# Altium schematic symbol library Resistors.SchLib: 93 symbols (part 2 of 2)
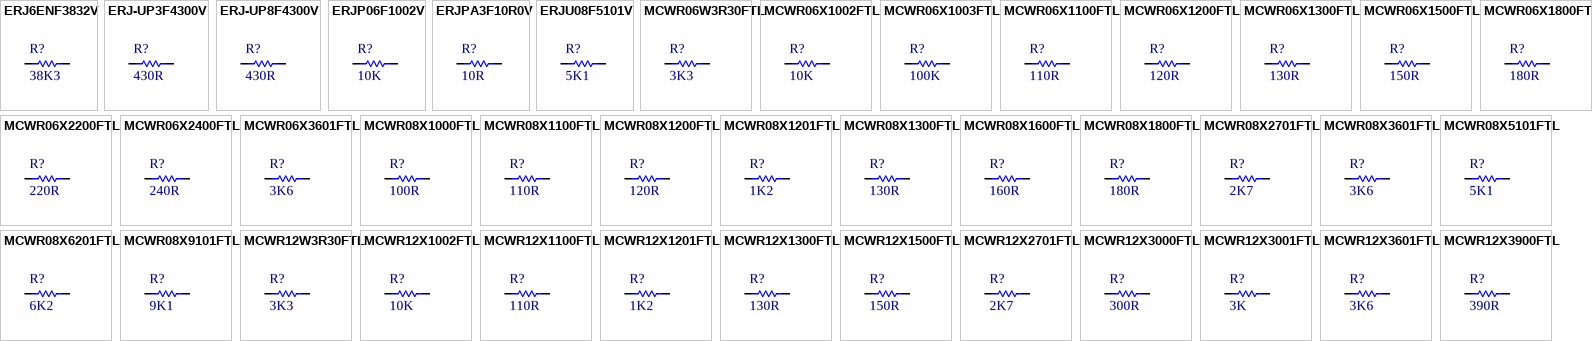
[diagram p3: symbols ERJ6ENF3832V to MCWR12X3900FTL]

## MCWR12X3001FTL
designator R?, comment 3K
RES 3K, ±1%, 250mW, 200V, 1206 [3216 Metric], Thick Film; Manufacturer: MULTICOMP PRO; Manufacturer Part Number: MCWR12X3001FTL; Temperature Coefficient: ± 100ppm/°C; Value: 3K; Supplier 1: Farnell; Supplier Part Number 1: 2447513; Tollerance: ± 1%; Power: 250mW; Voltage: 200V; Package: 1206 [3216 Metric]; Part Type: Thick Film; ComponentLink1Description: Datasheet; ComponentLink1URL: http://www.farnell.com/datasheets/2563624.pdf; Mounting: SMD
footprint RESC3216N (Chip Resistor, Body 3.2x1.6mm, IPC Medium Density)
pins: 1, 2
1 alternate drawing of the same symbol

## MCWR12X3601FTL
designator R?, comment 3K6
RES 3K6, ±1%, 250mW, 200V, 1206 [3216 Metric], Thick Film; Manufacturer: MULTICOMP PRO; Manufacturer Part Number: MCWR12X3601FTL; Temperature Coefficient: ± 100ppm/°C; Value: 3K6; Supplier 1: Farnell; Supplier Part Number 1: 2447515; Tollerance: ± 1%; Power: 250mW; Voltage: 200V; Package: 1206 [3216 Metric]; Part Type: Thick Film; ComponentLink1Description: Datasheet; ComponentLink1URL: http://www.farnell.com/datasheets/2563624.pdf; Mounting: SMD
footprint RESC3216N (Chip Resistor, Body 3.2x1.6mm, IPC Medium Density)
pins: 1, 2
1 alternate drawing of the same symbol

## MCWR12X3900FTL
designator R?, comment 390R
RES 390R, ±1%, 250mW, 1206 [3216 Metric], Thick Film, General Purpose; Manufacturer: MULTICOMP PRO; Manufacturer Part Number: MCWR12X3900FTL; Voltage: 200V; Temperature Coefficient: ± 100ppm/°C; Value: 390R; Supplier 1: Farnell; Supplier Part Number 1: 2447510; Tollerance: ± 1%; Power: 250mW; Package: 1206 [3216 Metric]; Resistor Type: Thick Film; ComponentLink1Description: http://www.farnell.com/datasheets/2563624.pdf; ComponentLink1URL: https://lt.farnell.com/multicomp/mcwr12x3900ftl/res-390r-1-0-25w-thick-film/dp/2447510
footprint RESC3216N (Chip Resistor, Body 3.2x1.6mm, IPC Medium Density)
pins: 1, 2
1 alternate drawing of the same symbol

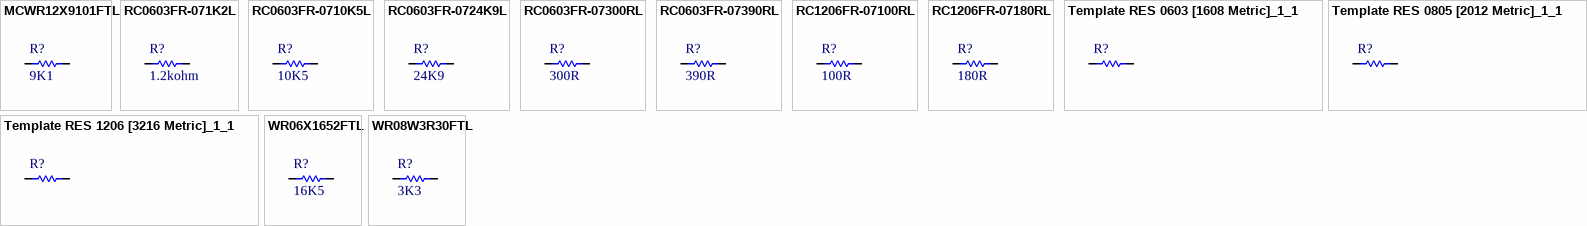
[diagram p2: symbols MCWR12X9101FTL to WR08W3R30FTL]

## MCWR12X9101FTL
designator R?, comment 9K1
RES 9K1, ±1%, 250mW, 200V, 1206 [3216 Metric], Thick Film; Manufacturer: MULTICOMP PRO; Manufacturer Part Number: MCWR12X9101FTL; Temperature Coefficient: ± 100ppm/°C; Value: 9K1; Supplier 1: Farnell; Supplier Part Number 1: 2447549; Tollerance: ± 1%; Power: 250mW; Voltage: 200V; Package: 1206 [3216 Metric]; Part Type: Thick Film; ComponentLink1Description: Datasheet; ComponentLink1URL: http://www.farnell.com/datasheets/2563624.pdf; Mounting: SMD
footprint RESC3216N (Chip Resistor, Body 3.2x1.6mm, IPC Medium Density)
pins: 1, 2
1 alternate drawing of the same symbol

## RC0603FR-071K2L
designator R?, comment 1.2kohm
RES 1K2, ±1%, 125mW, 75V, 0603 [1608 Metric], Thick Film; Manufacturer: YAGEO; Manufacturer Part Number: RC0603FR-071K2L; Power: 100mW; Temperature Coefficient: ± 150ppm/°C; Value: 1.2kohm; Supplier 1: Farnell; Supplier Part Number 1: 2693663; Tollerance: ± 1%; Voltage: 75V; Package: 0603 [1608 Metric]; Part Type: General Purpose; ComponentLink1Description: Datasheet; ComponentLink1URL: https://uk.farnell.com/yageo/rc0603fr-071k2l/res-1k2-1-0-1w-0603-thick-film/dp/2693663?ost=2693663; Mounting: SMD
footprint RESC1608N (Chip Resistor, Body 1.6x0.8mm, IPC Medium Density)
pins: 1, 2
1 alternate drawing of the same symbol

## RC0603FR-0710K5L
designator R?, comment 10K5
RES 10K5, ±1%, 100mW, 75V, 0603 [1608 Metric], Thick Film; Manufacturer: YAGEO; Manufacturer Part Number: RC0603FR-0710K5L; Tollerance: ±1%,; Temperature Coefficient: ± 100ppm/°C; Value: 10K5; Supplier 1: Farnell; Supplier Part Number 1: 3495722; Power: 100mW; Voltage: 75V; Package: 0603 [1608 Metric]; Part Type: Thick Film; ComponentLink1Description: Datasheet; ComponentLink1URL: http://www.farnell.com/datasheets/3046031.pdf; Mounting: SMD
footprint RESC1608N (Chip Resistor, Body 1.6x0.8mm, IPC Medium Density)
pins: 1, 2
1 alternate drawing of the same symbol

## RC0603FR-0724K9L
designator R?, comment 24K9
RES 24K9, ±1%, 100mW, 75V, 0603 [1608 Metric], Thick Film; Manufacturer: YAGEO; Manufacturer Part Number: RC0603FR-0724K9L; Temperature Coefficient: ± 100ppm/°C; Value: 24K9; Supplier 1: Farnell; Supplier Part Number 1: 3495781; Tollerance: ± 1%; Power: 100mW; Voltage: 75V; Package: 0603 [1608 Metric]; Part Type: Thick Film; ComponentLink1Description: Datasheet; ComponentLink1URL: http://www.farnell.com/datasheets/3046031.pdf; Mounting: SMD
footprint RESC1608N (Chip Resistor, Body 1.6x0.8mm, IPC Medium Density)
pins: 1, 2
1 alternate drawing of the same symbol

## RC0603FR-07300RL
designator R?, comment 300R
RES 300R, ±1%, 100mW, 75V, 0603 [1608 Metric], Thick Film; Manufacturer: Yageo; Manufacturer Part Number: RC0603FR-07300RL; Temperature Coefficient: ±100ppm/°C; Value: 300R; Supplier 1: Farnell; Supplier Part Number 1: 3495806; Tollerance: 1%; Power: 100mW; Voltage: 75V; Package: 0603 [1608 Metric]; Part Type: Thick film; ComponentLink1Description: https://lt.farnell.com/yageo/rc0603fr-07300rl/res-300r-1-0-1w-0603-thick-film/dp/3495806; ComponentLink1URL: http://www.farnell.com/datasheets/3046031.pdf; Mounting: SMD
footprint RESC1608N (Chip Resistor, Body 1.6x0.8mm, IPC Medium Density)
pins: 1, 2
1 alternate drawing of the same symbol

## RC0603FR-07390RL
designator R?, comment 390R
RES 390R, ±1%, 100mW, 0603 [1608 Metric], Thick Film, General Purpose; Manufacturer: YAGEO; Manufacturer Part Number: RC0603FR-07390RL; Voltage: 75V; Temperature Coefficient: ± 100ppm/°C; Value: 390R; Supplier 1: Farnell; Supplier Part Number 1: 9238433; Tollerance: ± 1%; Power: 100mW; Package: 0603 [1608 Metric]; Resistor Type: Thick Film; ComponentLink1Description: http://www.farnell.com/datasheets/1868787.pdf; ComponentLink1URL: https://lt.farnell.com/yageo/rc0603fr-07390rl/res-390r-1-0-1w-0603-thick-film/dp/9238433
footprint RESC1608N (Chip Resistor, Body 1.6x0.8mm, IPC Medium Density)
pins: 1, 2
1 alternate drawing of the same symbol

## RC1206FR-07100RL
designator R?, comment 100R
RES 100R, ±1%, 250mW, 200V, 1206 [3216 Metric], Thick Film; Manufacturer: YAGEO; Manufacturer Part Number: RC1206FR-07100RL; Temperature Coefficient: ± 100ppm/°C; Value: 100R; Supplier 1: Farnell; Supplier Part Number 1: 9240888; Tollerance: ± 1%; Power: 250mW; Voltage: 200V; Package: 1206 [3216 Metric]; Part Type: Thick Film; ComponentLink1Description: Datasheet; ComponentLink1URL: http://www.farnell.com/datasheets/2167052.pdf; Mounting: SMD
footprint RESC3216N (Chip Resistor, Body 3.2x1.6mm, IPC Medium Density)
pins: 1, 2
1 alternate drawing of the same symbol

## RC1206FR-07180RL
designator R?, comment 180R
RES 180R, ±1%, 250 mW, 1206 [3216 Metric], Thick Film, General Purpose; Manufacturer: YAGEO; Manufacturer Part Number: RC1206FR-07180RL; Power: 250mW; Voltage: 200V; Temperature Coefficient: ± 100ppm/°C; Value: 180R; Supplier 1: Farnell; Supplier Part Number 1: 9236775; Tollerance: ± 1%; Package: 1206 [3216 Metric]; Part Type: Thick Film; ComponentLink1Description: http://www.farnell.com/datasheets/2167052.pdf; ComponentLink1URL: https://lt.farnell.com/yageo/rc1206fr-07180rl/res-180r-1-0-25w-1206-thick-film/dp/9236775?ost=9236775&iscrfnonsku=false; Mounting: SMD
footprint RESC3216N (Chip Resistor, Body 3.2x1.6mm, IPC Medium Density)
pins: 1, 2
1 alternate drawing of the same symbol

## Template RES 0603 [1608 Metric]_1_1
designator R?
RES 1K, ±1%, 125mW, 75V, 0603 [1608 Metric], Thick Film; Power: 100mW; Voltage: 75V; Package: 0603 [1608 Metric]; ComponentLink1Description: Datasheet; Mounting: SMD
footprint RESC1608N (Chip Resistor, Body 1.6x0.8mm, IPC Medium Density)
pins: 1, 2
1 alternate drawing of the same symbol

## Template RES 0805 [2012 Metric]_1_1
designator R?
RES 1K, ±1%, 125mW, 150V, 0805 [2012 Metric], Thick Film; Power: 125mW; Voltage: 150V; Package: 0805 [2012 Metric]; ComponentLink1Description: Datasheet; Mounting: SMD
footprint RESC2012N (Chip Resistor, Body 2.0x1.3mm, IPC Medium Density)
pins: 1, 2
1 alternate drawing of the same symbol

## Template RES 1206 [3216 Metric]_1_1
designator R?
RES 1K, ±1%, 250mW, 200V, 1206 [3216 Metric], Thick Film; Power: 250mW; Voltage: 200V; Package: 1206 [3216 Metric]; ComponentLink1Description: Datasheet; Mounting: SMD
footprint RESC3216N (Chip Resistor, Body 3.2x1.6mm, IPC Medium Density)
pins: 1, 2
1 alternate drawing of the same symbol

## WR06X1652FTL
designator R?, comment 16K5
RES 16K5, ±1%, 100mW, 75V, 0603 [1608 Metric], Thick Film; Manufacturer: WALSIN; Manufacturer Part Number: WR06X1652FTL; Temperature Coefficient: ± 100ppm/°C; Value: 16K5; Supplier 1: Farnell; Supplier Part Number 1: 2670656; Tollerance: ± 1%; Power: 100mW; Voltage: 75V; Package: 0603 [1608 Metric]; Part Type: Thick Film; ComponentLink1Description: Datasheet; ComponentLink1URL: http://www.farnell.com/datasheets/1960319.pdf; Mounting: SMD
footprint RESC1608N (Chip Resistor, Body 1.6x0.8mm, IPC Medium Density)
pins: 1, 2
1 alternate drawing of the same symbol

## WR08W3R30FTL
designator R?, comment 3K3
RES 3K3, ±1%, 125mW, 150V, 0805 [2012 Metric], Thick Film; Manufacturer: WALSIN; Manufacturer Part Number: WR08W3R30FTL; Temperature Coefficient: ± 200ppm/K; Value: 3K3; Supplier 1: Farnell; Supplier Part Number 1: 2668290; Tollerance: ± 1%; Power: 125mW; Voltage: 150V; Package: 0805 [2012 Metric]; Part Type: Thick Film; ComponentLink1Description: Datasheet; ComponentLink1URL: http://www.farnell.com/datasheets/1960319.pdf; Mounting: SMD
footprint RESC2012N (Chip Resistor, Body 2.0x1.3mm, IPC Medium Density)
pins: 1, 2
1 alternate drawing of the same symbol